# Altium integrated library TI Interface Line Transceiver.IntLib: 631 symbols (part 17 of 17)
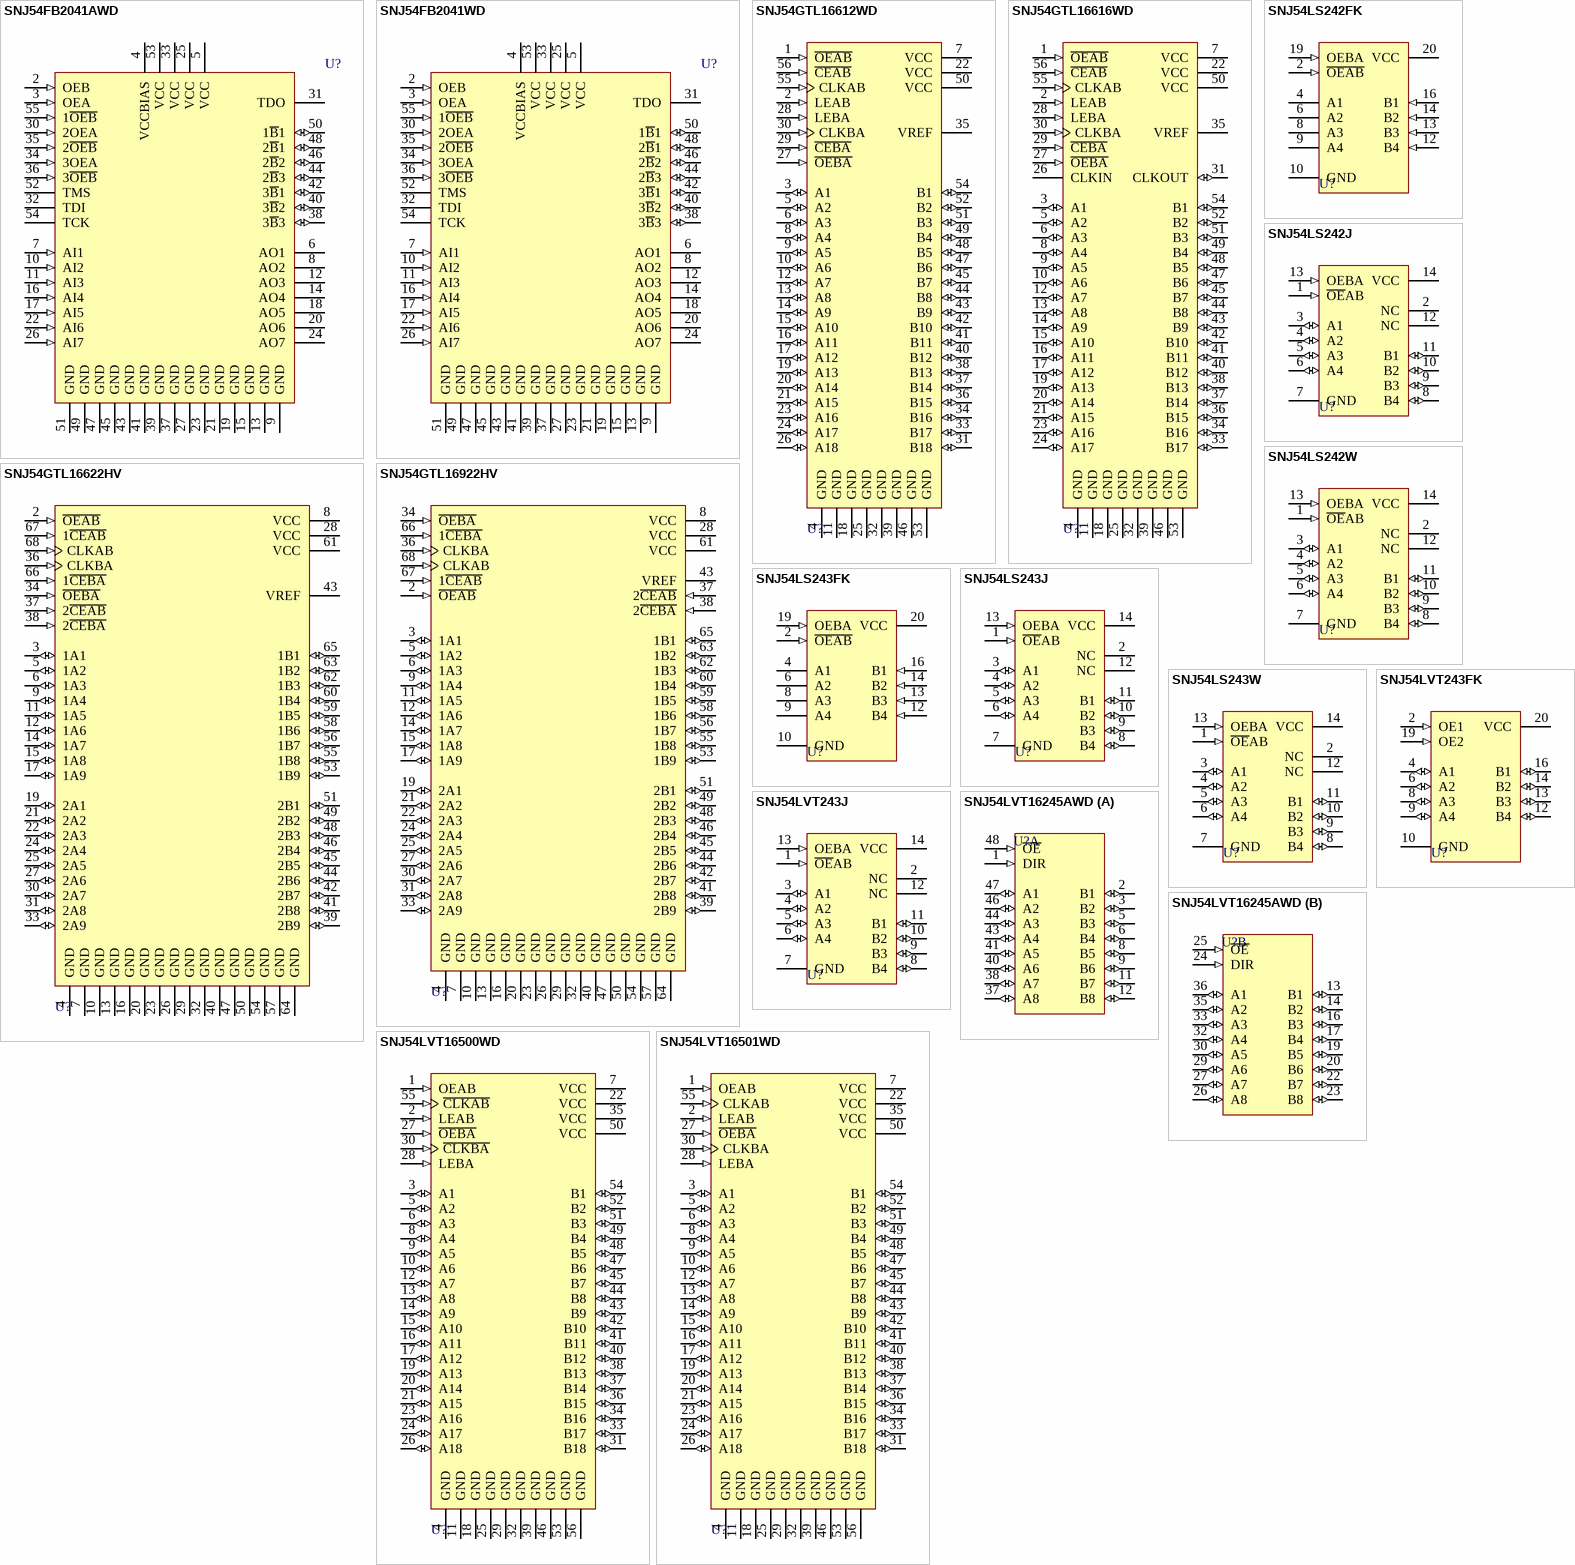
[diagram p55: symbols SNJ54FB2041AWD to SNJ54LVT16501WD]

## SNJ54LVT16500WD
designator U?
3.3-V ABT 18-Bit Universal Bus Transceiver with 3-State Outputs; Published: 8-Jun-2000; LatestRevisionDate: 04-Mar-2005; LatestRevisionNote: Stylized 3D Model Added.; DatasheetVersion: Nov-1996; PackageVersion: Jan-1998; PackageReference: WD056; Publisher: Altium Limited; PackageDescription: DFP; 56 Leads; Body 18.8 x 9.9 mm (LxW max); Pitch 0.635 mm; Code_JEDEC: MO-146-AB; ComponentLink1Description: Manufacturer Link; ComponentLink1URL: http://www.ti.com/
footprint WD056 (DFP; 56 Leads; Body 18.8 x 9.9 mm (LxW max); Pitch 0.635 mm)
3D model WD056 (DFP; 56 Leads; Body 18.8 x 9.9 mm (LxW max); Pitch 0.635 mm)
signal-integrity model SNJ54LVT16500WD
pins: 1 OEAB (in), 2 LEAB (in), 3 A1 (io), 4 GND (power), 5 A2 (io), 6 A3 (io), 7 VCC (power), 8 A4 (io), 9 A5 (io), 10 A6 (io), 11 GND (power), 12 A7 (io), 13 A8 (io), 14 A9 (io), 15 A10 (io), 16 A11 (io), 17 A12 (io), 18 GND (power), 19 A13 (io), 20 A14 (io), 21 A15 (io), 22 VCC (power), 23 A16 (io), 24 A17 (io), 25 GND (power), 26 A18 (io), 27 ~{OEBA} (in), 28 LEBA (in), 29 GND (power), 30 ~{CLKBA} (in), 31 B18 (io), 32 GND (power), 33 B17 (io), 34 B16 (io), 35 VCC (power), 36 B15 (io), 37 B14 (io), 38 B13 (io), 39 GND (power), 40 B12 (io), 41 B11 (io), 42 B10 (io), 43 B9 (io), 44 B8 (io), 45 B7 (io), 46 GND (power), 47 B6 (io), 48 B5 (io), 49 B4 (io), 50 VCC (power), 51 B3 (io), 52 B2 (io), 53 GND (power), 54 B1 (io), 55 ~{CLKAB} (in), 56 GND (power)

## SNJ54LVT16501WD
designator U?
3.3-V ABT 18-Bit Universal Bus Transceiver with 3-State Outputs; Published: 8-Jun-2000; LatestRevisionDate: 04-Mar-2005; LatestRevisionNote: Stylized 3D Model Added.; DatasheetVersion: Nov-1996; PackageVersion: Jan-1998; PackageReference: WD056; Publisher: Altium Limited; PackageDescription: DFP; 56 Leads; Body 18.8 x 9.9 mm (LxW max); Pitch 0.635 mm; Code_JEDEC: MO-146-AB; ComponentLink1Description: Manufacturer Link; ComponentLink1URL: http://www.ti.com/
footprint WD056 (DFP; 56 Leads; Body 18.8 x 9.9 mm (LxW max); Pitch 0.635 mm)
3D model WD056 (DFP; 56 Leads; Body 18.8 x 9.9 mm (LxW max); Pitch 0.635 mm)
signal-integrity model SNJ54LVT16501WD
pins: 1 OEAB (in), 2 LEAB (in), 3 A1 (io), 4 GND (power), 5 A2 (io), 6 A3 (io), 7 VCC (power), 8 A4 (io), 9 A5 (io), 10 A6 (io), 11 GND (power), 12 A7 (io), 13 A8 (io), 14 A9 (io), 15 A10 (io), 16 A11 (io), 17 A12 (io), 18 GND (power), 19 A13 (io), 20 A14 (io), 21 A15 (io), 22 VCC (power), 23 A16 (io), 24 A17 (io), 25 GND (power), 26 A18 (io), 27 ~{OEBA} (in), 28 LEBA (in), 29 GND (power), 30 CLKBA (in), 31 B18 (io), 32 GND (power), 33 B17 (io), 34 B16 (io), 35 VCC (power), 36 B15 (io), 37 B14 (io), 38 B13 (io), 39 GND (power), 40 B12 (io), 41 B11 (io), 42 B10 (io), 43 B9 (io), 44 B8 (io), 45 B7 (io), 46 GND (power), 47 B6 (io), 48 B5 (io), 49 B4 (io), 50 VCC (power), 51 B3 (io), 52 B2 (io), 53 GND (power), 54 B1 (io), 55 CLKAB (in), 56 GND (power)

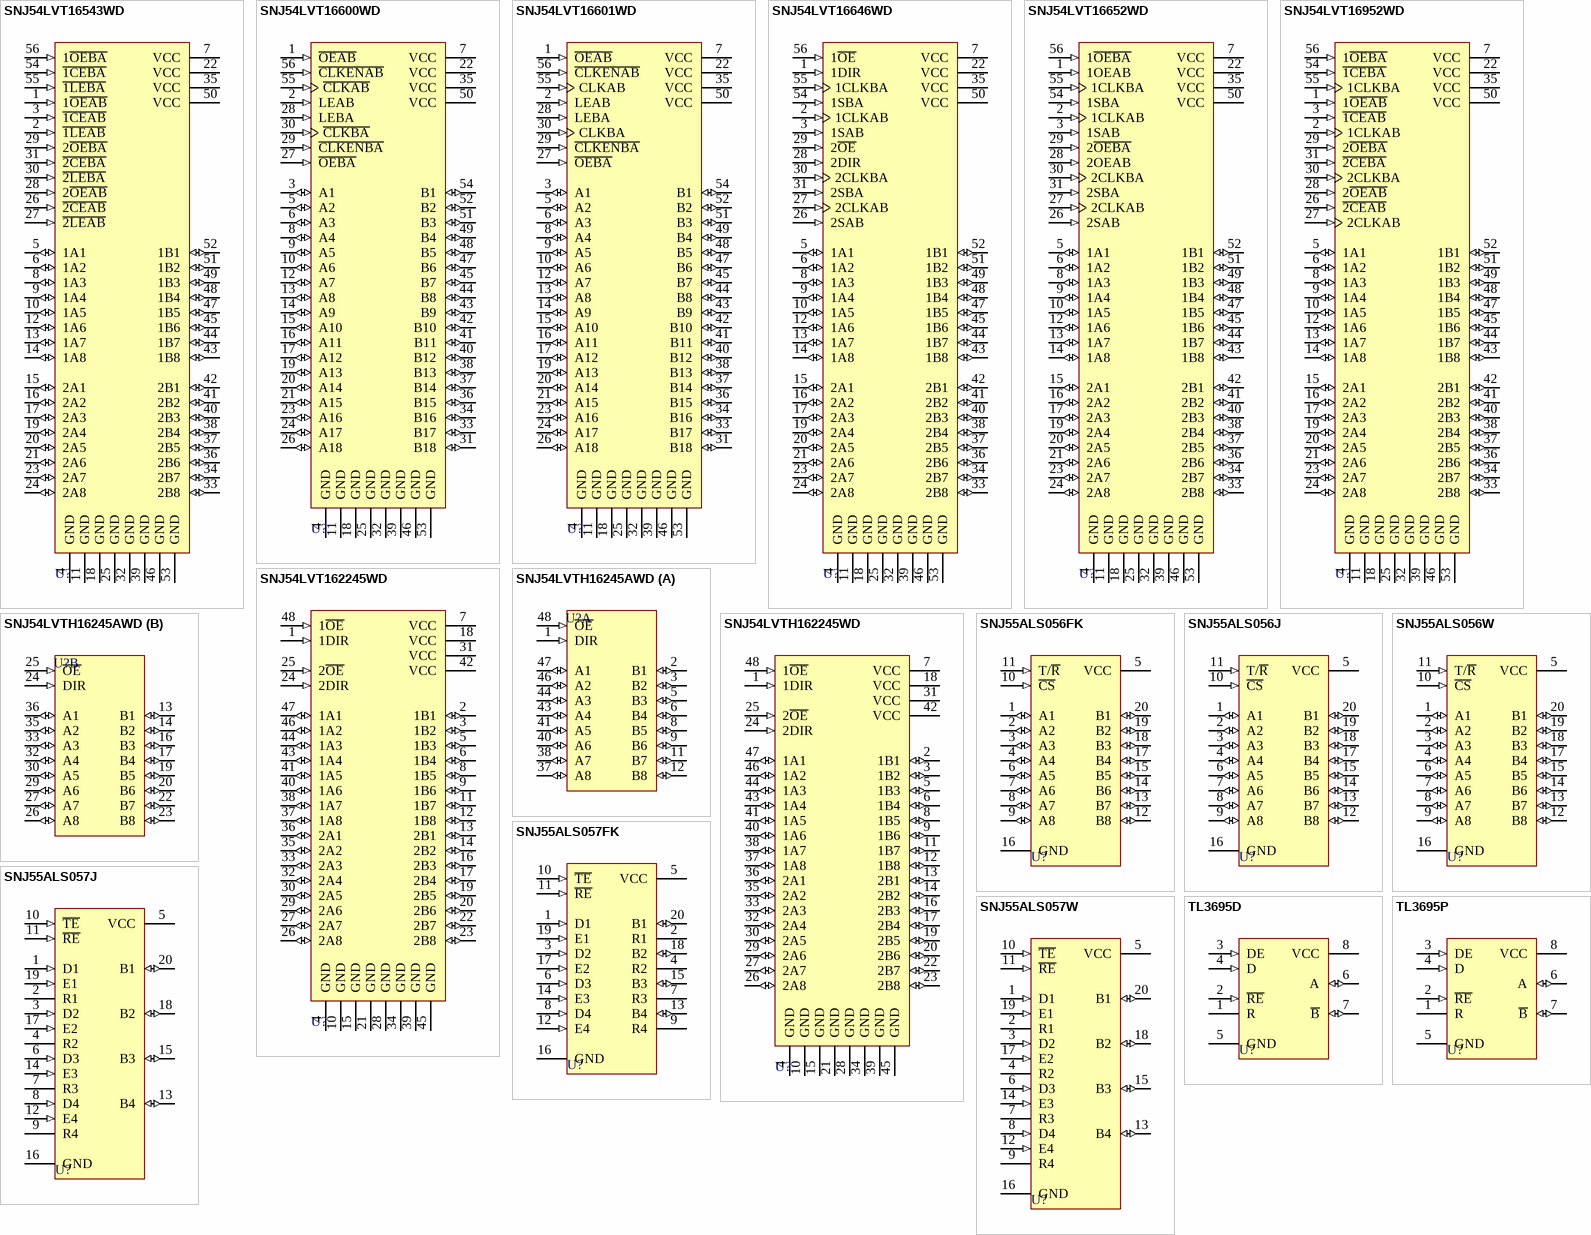
[diagram p37: symbols SNJ54LVT16543WD to TL3695P]

## SNJ54LVT16543WD
designator U?
3.3-V ABT 16-Bit Registered Transceiver with 3-State Outputs; Published: 8-Jun-2000; LatestRevisionDate: 04-Mar-2005; LatestRevisionNote: Stylized 3D Model Added.; DatasheetVersion: Jul-1995; PackageVersion: Jan-1998; PackageReference: WD056; Publisher: Altium Limited; PackageDescription: DFP; 56 Leads; Body 18.8 x 9.9 mm (LxW max); Pitch 0.635 mm; Code_JEDEC: MO-146-AB; ComponentLink1Description: Manufacturer Link; ComponentLink1URL: http://www.ti.com/
footprint WD056 (DFP; 56 Leads; Body 18.8 x 9.9 mm (LxW max); Pitch 0.635 mm)
3D model WD056 (DFP; 56 Leads; Body 18.8 x 9.9 mm (LxW max); Pitch 0.635 mm)
signal-integrity model SNJ54LVT16543WD
pins: 1 1~{OEAB} (in), 2 ~{1LEAB} (in), 3 ~{1CEAB} (in), 4 GND (power), 5 1A1 (io), 6 1A2 (io), 7 VCC (power), 8 1A3 (io), 9 1A4 (io), 10 1A5 (io), 11 GND (power), 12 1A6 (io), 13 1A7 (io), 14 1A8 (io), 15 2A1 (io), 16 2A2 (io), 17 2A3 (io), 18 GND (power), 19 2A4 (io), 20 2A5 (io), 21 2A6 (io), 22 VCC (power), 23 2A7 (io), 24 2A8 (io), 25 GND (power), 26 ~{2CEAB} (in), 27 ~{2LEAB} (in), 28 2~{OEAB} (in), 29 2~{OEBA} (in), 30 ~{2LEBA} (in), 31 ~{2CEBA} (in), 32 GND (power), 33 2B8 (io), 34 2B7 (io), 35 VCC (power), 36 2B6 (io), 37 2B5 (io), 38 2B4 (io), 39 GND (power), 40 2B3 (io), 41 2B2 (io), 42 2B1 (io), 43 1B8 (io), 44 1B7 (io), 45 1B6 (io), 46 GND (power), 47 1B5 (io), 48 1B4 (io), 49 1B3 (io), 50 VCC (power), 51 1B2 (io), 52 1B1 (io), 53 GND (power), 54 ~{1CEBA} (in), 55 ~{1LEBA} (in), 56 1~{OEBA} (in)

## SNJ54LVT16600WD
designator U?
3.3-V ABT 18-Bit Universal Bus Transceiver with 3-State Outputs; Published: 8-Jun-2000; LatestRevisionDate: 04-Mar-2005; LatestRevisionNote: Stylized 3D Model Added.; DatasheetVersion: Jul-1995; PackageVersion: Jan-1998; PackageReference: WD056; Publisher: Altium Limited; PackageDescription: DFP; 56 Leads; Body 18.8 x 9.9 mm (LxW max); Pitch 0.635 mm; Code_JEDEC: MO-146-AB; ComponentLink1Description: Manufacturer Link; ComponentLink1URL: http://www.ti.com/
footprint WD056 (DFP; 56 Leads; Body 18.8 x 9.9 mm (LxW max); Pitch 0.635 mm)
3D model WD056 (DFP; 56 Leads; Body 18.8 x 9.9 mm (LxW max); Pitch 0.635 mm)
signal-integrity model SNJ54LVT16600WD
pins: 1 ~{OEAB} (in), 2 LEAB (in), 3 A1 (io), 4 GND (power), 5 A2 (io), 6 A3 (io), 7 VCC (power), 8 A4 (io), 9 A5 (io), 10 A6 (io), 11 GND (power), 12 A7 (io), 13 A8 (io), 14 A9 (io), 15 A10 (io), 16 A11 (io), 17 A12 (io), 18 GND (power), 19 A13 (io), 20 A14 (io), 21 A15 (io), 22 VCC (power), 23 A16 (io), 24 A17 (io), 25 GND (power), 26 A18 (io), 27 ~{OEBA} (in), 28 LEBA (in), 29 ~{CLKENBA} (in), 30 ~{CLKBA} (in), 31 B18 (io), 32 GND (power), 33 B17 (io), 34 B16 (io), 35 VCC (power), 36 B15 (io), 37 B14 (io), 38 B13 (io), 39 GND (power), 40 B12 (io), 41 B11 (io), 42 B10 (io), 43 B9 (io), 44 B8 (io), 45 B7 (io), 46 GND (power), 47 B6 (io), 48 B5 (io), 49 B4 (io), 50 VCC (power), 51 B3 (io), 52 B2 (io), 53 GND (power), 54 B1 (io), 55 ~{CLKAB} (in), 56 ~{CLKENAB} (in)

## SNJ54LVT16601WD
designator U?
3.3-V ABT 18-Bit Universal Bus Transceiver with 3-State Outputs; Published: 8-Jun-2000; LatestRevisionDate: 04-Mar-2005; LatestRevisionNote: Stylized 3D Model Added.; DatasheetVersion: Jul-1995; PackageVersion: Jan-1998; PackageReference: WD056; Publisher: Altium Limited; PackageDescription: DFP; 56 Leads; Body 18.8 x 9.9 mm (LxW max); Pitch 0.635 mm; Code_JEDEC: MO-146-AB; ComponentLink1Description: Manufacturer Link; ComponentLink1URL: http://www.ti.com/
footprint WD056 (DFP; 56 Leads; Body 18.8 x 9.9 mm (LxW max); Pitch 0.635 mm)
3D model WD056 (DFP; 56 Leads; Body 18.8 x 9.9 mm (LxW max); Pitch 0.635 mm)
signal-integrity model SNJ54LVT16601WD
pins: 1 ~{OEAB} (in), 2 LEAB (in), 3 A1 (io), 4 GND (power), 5 A2 (io), 6 A3 (io), 7 VCC (power), 8 A4 (io), 9 A5 (io), 10 A6 (io), 11 GND (power), 12 A7 (io), 13 A8 (io), 14 A9 (io), 15 A10 (io), 16 A11 (io), 17 A12 (io), 18 GND (power), 19 A13 (io), 20 A14 (io), 21 A15 (io), 22 VCC (power), 23 A16 (io), 24 A17 (io), 25 GND (power), 26 A18 (io), 27 ~{OEBA} (in), 28 LEBA (in), 29 ~{CLKENBA} (in), 30 CLKBA (in), 31 B18 (io), 32 GND (power), 33 B17 (io), 34 B16 (io), 35 VCC (power), 36 B15 (io), 37 B14 (io), 38 B13 (io), 39 GND (power), 40 B12 (io), 41 B11 (io), 42 B10 (io), 43 B9 (io), 44 B8 (io), 45 B7 (io), 46 GND (power), 47 B6 (io), 48 B5 (io), 49 B4 (io), 50 VCC (power), 51 B3 (io), 52 B2 (io), 53 GND (power), 54 B1 (io), 55 CLKAB (in), 56 ~{CLKENAB} (in)

## SNJ54LVT16646WD
designator U?
3.3-V ABT 16-Bit Bus Transceiver with 3-State Outputs; Published: 8-Jun-2000; LatestRevisionDate: 04-Mar-2005; LatestRevisionNote: Stylized 3D Model Added.; DatasheetVersion: Jul-1995; PackageVersion: Jan-1998; PackageReference: WD056; Publisher: Altium Limited; PackageDescription: DFP; 56 Leads; Body 18.8 x 9.9 mm (LxW max); Pitch 0.635 mm; Code_JEDEC: MO-146-AB; ComponentLink1Description: Manufacturer Link; ComponentLink1URL: http://www.ti.com/; ComponentLink2Description: Datasheet; ComponentLink2URL: http://www-s.ti.com/sc/ds/sn74lvt16646.pdf
footprint WD056 (DFP; 56 Leads; Body 18.8 x 9.9 mm (LxW max); Pitch 0.635 mm)
3D model WD056 (DFP; 56 Leads; Body 18.8 x 9.9 mm (LxW max); Pitch 0.635 mm)
signal-integrity model SNJ54LVT16646WD
pins: 1 1DIR (in), 2 1CLKAB (in), 3 1SAB (in), 4 GND (power), 5 1A1 (io), 6 1A2 (io), 7 VCC (power), 8 1A3 (io), 9 1A4 (io), 10 1A5 (io), 11 GND (power), 12 1A6 (io), 13 1A7 (io), 14 1A8 (io), 15 2A1 (io), 16 2A2 (io), 17 2A3 (io), 18 GND (power), 19 2A4 (io), 20 2A5 (io), 21 2A6 (io), 22 VCC (power), 23 2A7 (io), 24 2A8 (io), 25 GND (power), 26 2SAB (in), 27 2CLKAB (in), 28 2DIR (in), 29 2~{OE} (in), 30 2CLKBA (in), 31 2SBA (in), 32 GND (power), 33 2B8 (io), 34 2B7 (io), 35 VCC (power), 36 2B6 (io), 37 2B5 (io), 38 2B4 (io), 39 GND (power), 40 2B3 (io), 41 2B2 (io), 42 2B1 (io), 43 1B8 (io), 44 1B7 (io), 45 1B6 (io), 46 GND (power), 47 1B5 (io), 48 1B4 (io), 49 1B3 (io), 50 VCC (power), 51 1B2 (io), 52 1B1 (io), 53 GND (power), 54 1SBA (in), 55 1CLKBA (in), 56 1~{OE} (in)

## SNJ54LVT16652WD
designator U?
3.3-V ABT 16-Bit Transceiver and Register with 3-State Outputs; Published: 8-Jun-2000; LatestRevisionDate: 04-Mar-2005; LatestRevisionNote: Stylized 3D Model Added.; DatasheetVersion: Feb-1996; PackageVersion: Jan-1998; PackageReference: WD056; Publisher: Altium Limited; PackageDescription: DFP; 56 Leads; Body 18.8 x 9.9 mm (LxW max); Pitch 0.635 mm; Code_JEDEC: MO-146-AB; ComponentLink1Description: Manufacturer Link; ComponentLink1URL: http://www.ti.com/
footprint WD056 (DFP; 56 Leads; Body 18.8 x 9.9 mm (LxW max); Pitch 0.635 mm)
3D model WD056 (DFP; 56 Leads; Body 18.8 x 9.9 mm (LxW max); Pitch 0.635 mm)
signal-integrity model SNJ54LVT16652WD
pins: 1 1OEAB (in), 2 1CLKAB (in), 3 1SAB (in), 4 GND (power), 5 1A1 (io), 6 1A2 (io), 7 VCC (power), 8 1A3 (io), 9 1A4 (io), 10 1A5 (io), 11 GND (power), 12 1A6 (io), 13 1A7 (io), 14 1A8 (io), 15 2A1 (io), 16 2A2 (io), 17 2A3 (io), 18 GND (power), 19 2A4 (io), 20 2A5 (io), 21 2A6 (io), 22 VCC (power), 23 2A7 (io), 24 2A8 (io), 25 GND (power), 26 2SAB (in), 27 2CLKAB (in), 28 2OEAB (in), 29 2~{OEBA} (in), 30 2CLKBA (in), 31 2SBA (in), 32 GND (power), 33 2B8 (io), 34 2B7 (io), 35 VCC (power), 36 2B6 (io), 37 2B5 (io), 38 2B4 (io), 39 GND (power), 40 2B3 (io), 41 2B2 (io), 42 2B1 (io), 43 1B8 (io), 44 1B7 (io), 45 1B6 (io), 46 GND (power), 47 1B5 (io), 48 1B4 (io), 49 1B3 (io), 50 VCC (power), 51 1B2 (io), 52 1B1 (io), 53 GND (power), 54 1SBA (in), 55 1CLKBA (in), 56 1~{OEBA} (in)

## SNJ54LVT16952WD
designator U?
3.3-V ABT 16-Bit Registered Transceiver with 3-State Outputs; Published: 8-Jun-2000; LatestRevisionDate: 04-Mar-2005; LatestRevisionNote: Stylized 3D Model Added.; DatasheetVersion: Aug-1996; PackageVersion: Jan-1998; PackageReference: WD056; Publisher: Altium Limited; PackageDescription: DFP; 56 Leads; Body 18.8 x 9.9 mm (LxW max); Pitch 0.635 mm; Code_JEDEC: MO-146-AB; ComponentLink1Description: Manufacturer Link; ComponentLink1URL: http://www.ti.com/
footprint WD056 (DFP; 56 Leads; Body 18.8 x 9.9 mm (LxW max); Pitch 0.635 mm)
3D model WD056 (DFP; 56 Leads; Body 18.8 x 9.9 mm (LxW max); Pitch 0.635 mm)
signal-integrity model SNJ54LVT16952WD
pins: 1 1~{OEAB} (in), 2 1CLKAB (in), 3 ~{1CEAB} (in), 4 GND (power), 5 1A1 (io), 6 1A2 (io), 7 VCC (power), 8 1A3 (io), 9 1A4 (io), 10 1A5 (io), 11 GND (power), 12 1A6 (io), 13 1A7 (io), 14 1A8 (io), 15 2A1 (io), 16 2A2 (io), 17 2A3 (io), 18 GND (power), 19 2A4 (io), 20 2A5 (io), 21 2A6 (io), 22 VCC (power), 23 2A7 (io), 24 2A8 (io), 25 GND (power), 26 ~{2CEAB} (in), 27 2CLKAB (in), 28 2~{OEAB} (in), 29 2~{OEBA} (in), 30 2CLKBA (in), 31 ~{2CEBA} (in), 32 GND (power), 33 2B8 (io), 34 2B7 (io), 35 VCC (power), 36 2B6 (io), 37 2B5 (io), 38 2B4 (io), 39 GND (power), 40 2B3 (io), 41 2B2 (io), 42 2B1 (io), 43 1B8 (io), 44 1B7 (io), 45 1B6 (io), 46 GND (power), 47 1B5 (io), 48 1B4 (io), 49 1B3 (io), 50 VCC (power), 51 1B2 (io), 52 1B1 (io), 53 GND (power), 54 ~{1CEBA} (in), 55 1CLKBA (in), 56 1~{OEBA} (in)

## SNJ54LVT162245WD
designator U?
3.3-V ABT 16-Bit Bus Transceiver with 3-State Outputs; Published: 8-Jun-2000; LatestRevisionDate: 04-Mar-2005; LatestRevisionNote: Stylized 3D Model Added.; DatasheetVersion: Nov-1995; PackageVersion: Jan-1998; PackageReference: WD048; Publisher: Altium Limited; PackageDescription: DFP; 48 Leads; Body 16.3 x 9.9 mm (LxW max); Pitch 0.635 mm; Code_JEDEC: MO-146-AA; ComponentLink1Description: Manufacturer Link; ComponentLink1URL: http://www.ti.com/
footprint WD048 (DFP; 48 Leads; Body 16.3 x 9.9 mm (LxW max); Pitch 0.635 mm)
3D model WD048 (DFP; 48 Leads; Body 16.3 x 9.9 mm (LxW max); Pitch 0.635 mm)
signal-integrity model SNJ54LVT162245WD
pins: 1 1DIR (in), 2 1B1 (io), 3 1B2 (io), 4 GND (power), 5 1B3 (io), 6 1B4 (io), 7 VCC (power), 8 1B5 (io), 9 1B6 (io), 10 GND (power), 11 1B7 (io), 12 1B8 (io), 13 2B1 (io), 14 2B2 (io), 15 GND (power), 16 2B3 (io), 17 2B4 (io), 18 VCC (power), 19 2B5 (io), 20 2B6 (io), 21 GND (power), 22 2B7 (io), 23 2B8 (io), 24 2DIR (in), 25 2~{OE} (in), 26 2A8 (io), 27 2A7 (io), 28 GND (power), 29 2A6 (io), 30 2A5 (io), 31 VCC (power), 32 2A4 (io), 33 2A3 (io), 34 GND (power), 35 2A2 (io), 36 2A1 (io), 37 1A8 (io), 38 1A7 (io), 39 GND (power), 40 1A6 (io), 41 1A5 (io), 42 VCC (power), 43 1A4 (io), 44 1A3 (io), 45 GND (power), 46 1A2 (io), 47 1A1 (io), 48 1~{OE} (in)

## SNJ54LVTH16245AWD
designator U?
3.3-V ABT 16-Bit Bus Transceiver with 3-State Outputs; Published: 8-Jun-2000; LatestRevisionDate: 04-Mar-2005; LatestRevisionNote: Stylized 3D Model Added.; DatasheetVersion: Apr-1999; PackageVersion: Jan-1998; PackageReference: WD048; Publisher: Altium Limited; PackageDescription: DFP; 48 Leads; Body 16.3 x 9.9 mm (LxW max); Pitch 0.635 mm; Code_JEDEC: MO-146-AA; ComponentLink1Description: Manufacturer Link; ComponentLink1URL: http://www.ti.com/; ComponentLink2Description: Datasheet; ComponentLink2URL: http://www-s.ti.com/sc/ds/sn74lvth16245a.pdf
footprint WD048 (DFP; 48 Leads; Body 16.3 x 9.9 mm (LxW max); Pitch 0.635 mm)
3D model WD048 (DFP; 48 Leads; Body 16.3 x 9.9 mm (LxW max); Pitch 0.635 mm)
pins on every part: 4 GND (power) hidden to GND, 7 VCC (power) hidden to VCC, 10 GND (power) hidden to GND, 15 GND (power) hidden to GND, 18 VCC (power) hidden to VCC, 21 GND (power) hidden to GND, 28 GND (power) hidden to GND, 31 VCC (power) hidden to VCC, 34 GND (power) hidden to GND, 39 GND (power) hidden to GND, 42 VCC (power) hidden to VCC, 45 GND (power) hidden to GND
part A pins: 1 DIR (in), 2 B1 (io), 3 B2 (io), 5 B3 (io), 6 B4 (io), 8 B5 (io), 9 B6 (io), 11 B7 (io), 12 B8 (io), 37 A8 (io), 38 A7 (io), 40 A6 (io), 41 A5 (io), 43 A4 (io), 44 A3 (io), 46 A2 (io), 47 A1 (io), 48 ~{OE} (in)
part B pins: 13 B1 (io), 14 B2 (io), 16 B3 (io), 17 B4 (io), 19 B5 (io), 20 B6 (io), 22 B7 (io), 23 B8 (io), 24 DIR (in), 25 ~{OE} (in), 26 A8 (io), 27 A7 (io), 29 A6 (io), 30 A5 (io), 32 A4 (io), 33 A3 (io), 35 A2 (io), 36 A1 (io)

## SNJ54LVTH162245WD
designator U?
3.3-V ABT 16-Bit Bus Transceiver with 3-State Outputs; Published: 8-Jun-2000; LatestRevisionDate: 04-Mar-2005; LatestRevisionNote: Stylized 3D Model Added.; DatasheetVersion: Apr-1999; PackageVersion: Jan-1998; PackageReference: WD048; Publisher: Altium Limited; PackageDescription: DFP; 48 Leads; Body 16.3 x 9.9 mm (LxW max); Pitch 0.635 mm; Code_JEDEC: MO-146-AA; ComponentLink1Description: Manufacturer Link; ComponentLink1URL: http://www.ti.com/; ComponentLink2Description: Datasheet; ComponentLink2URL: http://www-s.ti.com/sc/ds/sn74lvth162245.pdf
footprint WD048 (DFP; 48 Leads; Body 16.3 x 9.9 mm (LxW max); Pitch 0.635 mm)
3D model WD048 (DFP; 48 Leads; Body 16.3 x 9.9 mm (LxW max); Pitch 0.635 mm)
pins: 1 1DIR (in), 2 1B1 (io), 3 1B2 (io), 4 GND (power), 5 1B3 (io), 6 1B4 (io), 7 VCC (power), 8 1B5 (io), 9 1B6 (io), 10 GND (power), 11 1B7 (io), 12 1B8 (io), 13 2B1 (io), 14 2B2 (io), 15 GND (power), 16 2B3 (io), 17 2B4 (io), 18 VCC (power), 19 2B5 (io), 20 2B6 (io), 21 GND (power), 22 2B7 (io), 23 2B8 (io), 24 2DIR (in), 25 2~{OE} (in), 26 2A8 (io), 27 2A7 (io), 28 GND (power), 29 2A6 (io), 30 2A5 (io), 31 VCC (power), 32 2A4 (io), 33 2A3 (io), 34 GND (power), 35 2A2 (io), 36 2A1 (io), 37 1A8 (io), 38 1A7 (io), 39 GND (power), 40 1A6 (io), 41 1A5 (io), 42 VCC (power), 43 1A4 (io), 44 1A3 (io), 45 GND (power), 46 1A2 (io), 47 1A1 (io), 48 1~{OE} (in)

## SNJ55ALS056FK
designator U?
Trapezoidal-Waveform Interface Bus Transceiver; Published: 8-Jun-2000; LatestRevisionDate: 17-Jul-2002; LatestRevisionNote: Re-released for DXP Platform.; DatasheetVersion: Apr-1989; PackageVersion: 1998; PackageReference: FK020D; Publisher: Altium Limited; PackageDescription: Leadless Chip Carrier; 20 Terminals; Body 8.9 x 8.9 mm; ComponentLink1Description: Manufacturer Link; ComponentLink1URL: http://www.ti.com/
footprint FK020D (Leadless Chip Carrier; 20 Terminals; Body 8.9 x 8.9 mm)
pins: 1 A1 (io), 2 A2 (io), 3 A3 (io), 4 A4 (io), 5 VCC (power), 6 A5 (io), 7 A6 (io), 8 A7 (io), 9 A8 (io), 10 ~{CS} (in), 11 T/~{R} (in), 12 B8 (io), 13 B7 (io), 14 B6 (io), 15 B5 (io), 16 GND (power), 17 B4 (io), 18 B3 (io), 19 B2 (io), 20 B1 (io)

## SNJ55ALS056J
designator U?
Trapezoidal-Waveform Interface Bus Transceiver; Published: 8-Jun-2000; LatestRevisionDate: 04-Mar-2005; LatestRevisionNote: Stylized 3D Model Added.; DatasheetVersion: Apr-1989; PackageVersion: Jun-1999; PackageReference: J020D; Publisher: Altium Limited; PackageDescription: DIP; 20 Leads; Row Spacing 7.62 mm; Pitch 2.54 mm; ComponentLink1Description: Manufacturer Link; ComponentLink1URL: http://www.ti.com/
footprint J020D (DIP; 20 Leads; Row Spacing 7.62 mm; Pitch 2.54 mm)
3D model J020 (DIP; 20 Leads; Row Spacing 7.62 mm; Pitch 2.54 mm)
pins: 1 A1 (io), 2 A2 (io), 3 A3 (io), 4 A4 (io), 5 VCC (power), 6 A5 (io), 7 A6 (io), 8 A7 (io), 9 A8 (io), 10 ~{CS} (in), 11 T/~{R} (in), 12 B8 (io), 13 B7 (io), 14 B6 (io), 15 B5 (io), 16 GND (power), 17 B4 (io), 18 B3 (io), 19 B2 (io), 20 B1 (io)

## SNJ55ALS056W
designator U?
Trapezoidal-Waveform Interface Bus Transceiver; Published: 8-Jun-2000; LatestRevisionDate: 04-Mar-2005; LatestRevisionNote: Stylized 3D Model Added.; DatasheetVersion: Apr-1989; PackageVersion: Jan-1995; PackageReference: W020; Publisher: Altium Limited; PackageDescription: DFP; 20 Leads; Body 13.7 x 7.6 mm (LxW max); Pitch 1.27 mm; ComponentLink1Description: Manufacturer Link; ComponentLink1URL: http://www.ti.com/
footprint W020 (DFP; 20 Leads; Body 13.7 x 7.6 mm (LxW max); Pitch 1.27 mm)
3D model W020 (DFP; 20 Leads; Body 13.7 x 7.6 mm (LxW max); Pitch 1.27 mm)
pins: 1 A1 (io), 2 A2 (io), 3 A3 (io), 4 A4 (io), 5 VCC (power), 6 A5 (io), 7 A6 (io), 8 A7 (io), 9 A8 (io), 10 ~{CS} (in), 11 T/~{R} (in), 12 B8 (io), 13 B7 (io), 14 B6 (io), 15 B5 (io), 16 GND (power), 17 B4 (io), 18 B3 (io), 19 B2 (io), 20 B1 (io)

## SNJ55ALS057FK
designator U?
Trapezoidal-Waveform Interface Bus Transceiver; Published: 8-Jun-2000; LatestRevisionDate: 17-Jul-2002; LatestRevisionNote: Re-released for DXP Platform.; DatasheetVersion: Apr-1989; PackageVersion: 1998; PackageReference: FK020D; Publisher: Altium Limited; PackageDescription: Leadless Chip Carrier; 20 Terminals; Body 8.9 x 8.9 mm; ComponentLink1Description: Manufacturer Link; ComponentLink1URL: http://www.ti.com/
footprint FK020D (Leadless Chip Carrier; 20 Terminals; Body 8.9 x 8.9 mm)
pins: 1 D1 (in), 2 R1 (hiz), 3 D2 (in), 4 R2 (hiz), 5 VCC (power), 6 D3 (in), 7 R3 (hiz), 8 D4 (in), 9 R4 (hiz), 10 ~{TE} (in), 11 ~{RE} (in), 12 E4 (in), 13 B4 (io), 14 E3 (in), 15 B3 (io), 16 GND (power), 17 E2 (in), 18 B2 (io), 19 E1 (in), 20 B1 (io)

## SNJ55ALS057J
designator U?
Trapezoidal-Waveform Interface Bus Transceiver; Published: 8-Jun-2000; LatestRevisionDate: 04-Mar-2005; LatestRevisionNote: Stylized 3D Model Added.; DatasheetVersion: Apr-1989; PackageVersion: Jun-1999; PackageReference: J020D; Publisher: Altium Limited; PackageDescription: DIP; 20 Leads; Row Spacing 7.62 mm; Pitch 2.54 mm; ComponentLink1Description: Manufacturer Link; ComponentLink1URL: http://www.ti.com/
footprint J020D (DIP; 20 Leads; Row Spacing 7.62 mm; Pitch 2.54 mm)
3D model J020 (DIP; 20 Leads; Row Spacing 7.62 mm; Pitch 2.54 mm)
pins: 1 D1 (in), 2 R1 (hiz), 3 D2 (in), 4 R2 (hiz), 5 VCC (power), 6 D3 (in), 7 R3 (hiz), 8 D4 (in), 9 R4 (hiz), 10 ~{TE} (in), 11 ~{RE} (in), 12 E4 (in), 13 B4 (io), 14 E3 (in), 15 B3 (io), 16 GND (power), 17 E2 (in), 18 B2 (io), 19 E1 (in), 20 B1 (io)

## SNJ55ALS057W
designator U?
Trapezoidal-Waveform Interface Bus Transceiver; Published: 8-Jun-2000; LatestRevisionDate: 04-Mar-2005; LatestRevisionNote: Stylized 3D Model Added.; DatasheetVersion: Apr-1989; PackageVersion: Jan-1995; PackageReference: W020; Publisher: Altium Limited; PackageDescription: DFP; 20 Leads; Body 13.7 x 7.6 mm (LxW max); Pitch 1.27 mm; ComponentLink1Description: Manufacturer Link; ComponentLink1URL: http://www.ti.com/
footprint W020 (DFP; 20 Leads; Body 13.7 x 7.6 mm (LxW max); Pitch 1.27 mm)
3D model W020 (DFP; 20 Leads; Body 13.7 x 7.6 mm (LxW max); Pitch 1.27 mm)
pins: 1 D1 (in), 2 R1 (hiz), 3 D2 (in), 4 R2 (hiz), 5 VCC (power), 6 D3 (in), 7 R3 (hiz), 8 D4 (in), 9 R4 (hiz), 10 ~{TE} (in), 11 ~{RE} (in), 12 E4 (in), 13 B4 (io), 14 E3 (in), 15 B3 (io), 16 GND (power), 17 E2 (in), 18 B2 (io), 19 E1 (in), 20 B1 (io)

## TL3695D
designator U?
Differential Bus Transceiver; Note: Receiver Hysteresis typically 70mV.; Published: 15-May-2002; LatestRevisionDate: 13-Apr-2006; LatestRevisionNote: IPC-7351 Footprint Added.; DatasheetVersion: Jan-1990; PackageVersion: Jan-1998; PackageReference: D008; Publisher: Altium Limited; PackageDescription: 8-Pin Small Outline Integrated Circuit 1.27 mm Pitch; Code_IPC: SOIC127P600-8; ComponentLink1Description: Manufacturer Link; ComponentLink1URL: http://www.ti.com/; ComponentLink2Description: Datasheet; ComponentLink2URL: http://www-s.ti.com/sc/ds/tl3695.pdf
footprint D008_N (SOIC, 8-Leads, Body 4.9x3.9mm, Pitch 1.27mm, IPC Medium Density)
footprint D008_L (SOIC, 8-Leads, Body 4.9x3.9mm, Pitch 1.27mm, IPC High Density)
footprint D008_M (SOIC, 8-Leads, Body 4.9x3.9mm, Pitch 1.27mm, IPC Low Density)
3D model D008 (8-Pin Small Outline Integrated Circuit 1.27 mm Pitch)
pins: 1 R (hiz), 2 ~{RE} (in), 3 DE (in), 4 D (in), 5 GND (power), 6 A (io), 7 ~{B} (io), 8 VCC (power)

## TL3695P
designator U?
Differential Bus Transceiver; Note: Receiver Hysteresis typically 70mV.; Published: 15-May-2002; LatestRevisionDate: 04-Mar-2005; LatestRevisionNote: Stylized 3D Model Added.; DatasheetVersion: Jan-1990; PackageVersion: Jun-1999; PackageReference: P008; Publisher: Altium Limited; PackageDescription: DIP; 8 Leads; Row Spacing 7.62 mm; Pitch 2.54 mm; Code_JEDEC: MO-001-AN; ComponentLink1Description: Manufacturer Link; ComponentLink1URL: http://www.ti.com/; ComponentLink2Description: Datasheet; ComponentLink2URL: http://www-s.ti.com/sc/ds/tl3695.pdf
footprint P008 (DIP; 8 Leads; Row Spacing 7.62 mm; Pitch 2.54 mm)
3D model P008 (DIP; 8 Leads; Row Spacing 7.62 mm; Pitch 2.54 mm)
pins: 1 R (hiz), 2 ~{RE} (in), 3 DE (in), 4 D (in), 5 GND (power), 6 A (io), 7 ~{B} (io), 8 VCC (power)

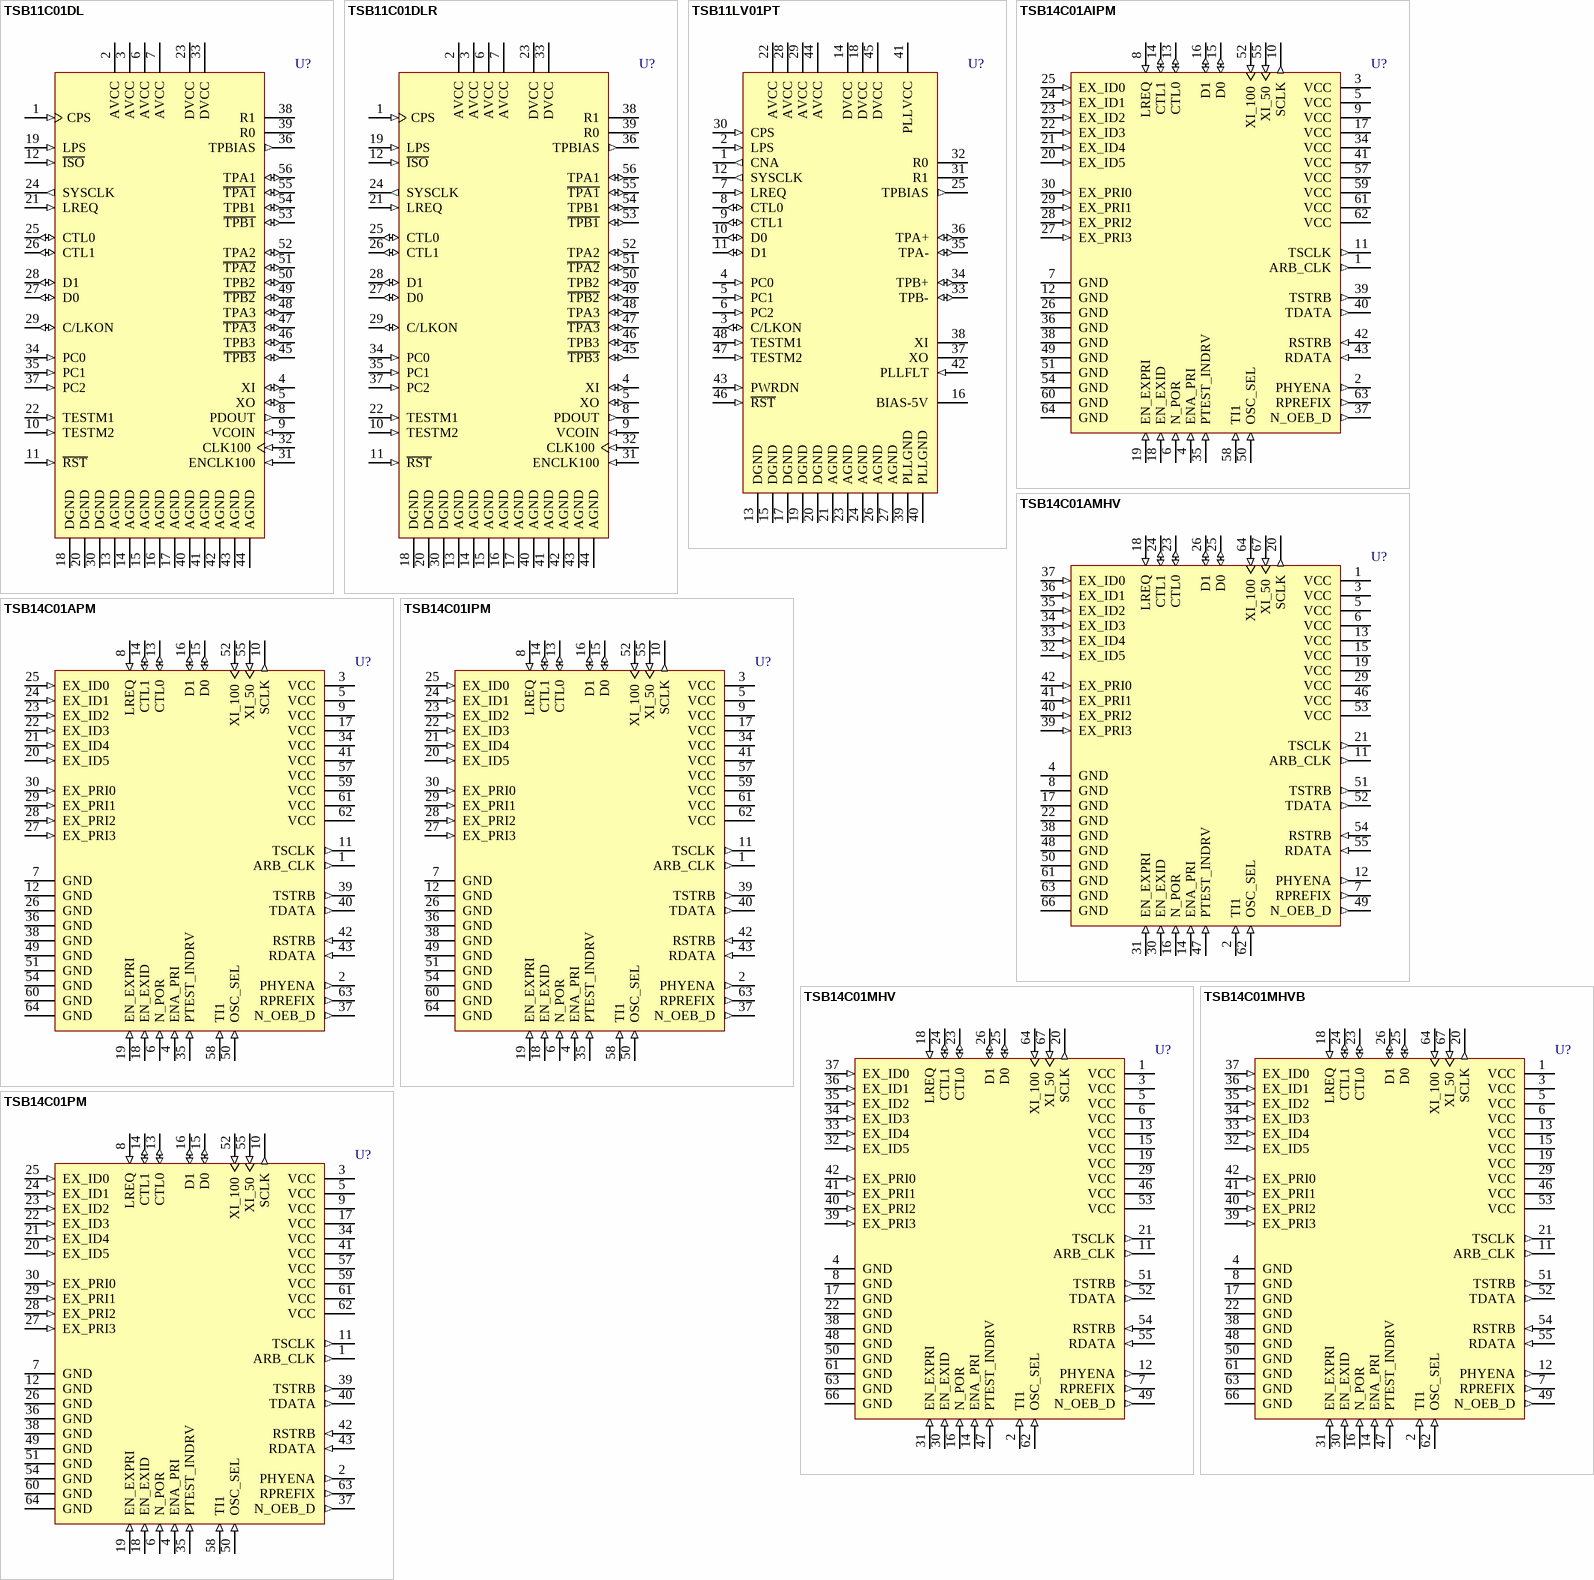
[diagram p38: symbols TSB11C01DL to TSB14C01PM]

## TSB11C01DL
designator U?
IEEE 1394-1995 Triple-Cable Transceiver/Arbiter; Note: Pins 10 and 22 should be tied high.  Pin 36 (TPBIAS) Refer to note in Texas Instruments Data Sheet; ComponentAvailability: Obsolete; Published: 15-Apr-2002; LatestRevisionDate: 04-Mar-2005; LatestRevisionNote: Stylized 3D Model Added.; DatasheetVersion: Mar-1996; PackageVersion: Dec-2001; PackageReference: DL056; Publisher: Altium Limited; PackageDescription: SSOP; 56 Leads; Body Width 7.5 mm; Pitch 0.635 mm; Code_JEDEC: MO-118-AB; Code_IPC: SSO56; ComponentLink1Description: Manufacturer Link; ComponentLink1URL: http://www.ti.com/; ComponentLink2Description: Datasheet; ComponentLink2URL: http://www-s.ti.com/sc/ds/tsb11c01.pdf
footprint DL056 (SSOP; 56 Leads; Body Width 7.5 mm; Pitch 0.635 mm)
3D model DL056 (SSOP; 56 Leads; Body Width 7.5 mm; Pitch 0.635 mm)
pins: 1 CPS (in), 2 AVCC (power), 3 AVCC (power), 4 XI (io), 5 XO (io), 6 AVCC (power), 7 AVCC (power), 8 PDOUT (out), 9 VCOIN (in), 10 TESTM2 (in), 11 ~{RST} (in), 12 ~{ISO} (in), 13 AGND (power), 14 AGND (power), 15 AGND (power), 16 AGND (power), 17 AGND (power), 18 DGND (power), 19 LPS (in), 20 DGND (power), 21 LREQ (in), 22 TESTM1 (in), 23 DVCC (power), 24 SYSCLK (out), 25 CTL0 (io), 26 CTL1 (io), 27 D0 (io), 28 D1 (io), 29 C/LKON (io), 30 DGND (power), 31 ENCLK100 (in), 32 CLK100 (in), 33 DVCC (power), 34 PC0 (in), 35 PC1 (in), 36 TPBIAS (out), 37 PC2 (in), 38 R1, 39 R0, 40 AGND (power), 41 AGND (power), 42 AGND (power), 43 AGND (power), 44 AGND (power), 45 ~{TPB3} (io), 46 TPB3 (io), 47 ~{TPA3} (io), 48 TPA3 (io), 49 ~{TPB2} (io), 50 TPB2 (io), 51 ~{TPA2} (io), 52 TPA2 (io), 53 ~{TPB1} (io), 54 TPB1 (io), 55 ~{TPA1} (io), 56 TPA1 (io)

## TSB11C01DLR
designator U?
IEEE 1394-1995 Triple-Cable Transceiver/Arbiter; Note: Pins 10 and 22 should be tied high.  Pin 36 (TPBIAS) Refer to note in Texas Instruments Data Sheet; ComponentAvailability: Obsolete; Published: 15-Apr-2002; LatestRevisionDate: 04-Mar-2005; LatestRevisionNote: Stylized 3D Model Added.; DatasheetVersion: Mar-1996; PackageVersion: Dec-2001; PackageReference: DL056; Publisher: Altium Limited; PackageDescription: SSOP; 56 Leads; Body Width 7.5 mm; Pitch 0.635 mm; Code_JEDEC: MO-118-AB; Code_IPC: SSO56; ComponentLink1Description: Manufacturer Link; ComponentLink1URL: http://www.ti.com/; ComponentLink2Description: Datasheet; ComponentLink2URL: http://www-s.ti.com/sc/ds/tsb11c01.pdf
footprint DL056 (SSOP; 56 Leads; Body Width 7.5 mm; Pitch 0.635 mm)
3D model DL056 (SSOP; 56 Leads; Body Width 7.5 mm; Pitch 0.635 mm)
pins: 1 CPS (in), 2 AVCC (power), 3 AVCC (power), 4 XI (io), 5 XO (io), 6 AVCC (power), 7 AVCC (power), 8 PDOUT (out), 9 VCOIN (in), 10 TESTM2 (in), 11 ~{RST} (in), 12 ~{ISO} (in), 13 AGND (power), 14 AGND (power), 15 AGND (power), 16 AGND (power), 17 AGND (power), 18 DGND (power), 19 LPS (in), 20 DGND (power), 21 LREQ (in), 22 TESTM1 (in), 23 DVCC (power), 24 SYSCLK (out), 25 CTL0 (io), 26 CTL1 (io), 27 D0 (io), 28 D1 (io), 29 C/LKON (io), 30 DGND (power), 31 ENCLK100 (in), 32 CLK100 (in), 33 DVCC (power), 34 PC0 (in), 35 PC1 (in), 36 TPBIAS (out), 37 PC2 (in), 38 R1, 39 R0, 40 AGND (power), 41 AGND (power), 42 AGND (power), 43 AGND (power), 44 AGND (power), 45 ~{TPB3} (io), 46 TPB3 (io), 47 ~{TPA3} (io), 48 TPA3 (io), 49 ~{TPB2} (io), 50 TPB2 (io), 51 ~{TPA2} (io), 52 TPA2 (io), 53 ~{TPB1} (io), 54 TPB1 (io), 55 ~{TPA1} (io), 56 TPA1 (io)

## TSB11LV01PT
designator U?
3-V 1-Port IEEE 1394-1995 Cable Transceiver/Arbiter; Note: Pins 47 and 48 should be tied high; ComponentAvailability: Obsolete; Published: 15-Apr-2002; LatestRevisionDate: 13-Apr-2006; LatestRevisionNote: IPC-7351 Footprint Added.; DatasheetVersion: May-1997; PackageVersion: May-1997; PackageReference: PT48; Publisher: Altium Limited; PackageDescription: 48-Pin Thin Quad Flat Pack 0.5 mm Pitch; ComponentLink1Description: Manufacturer Link; ComponentLink1URL: http://www.ti.com/; ComponentLink2Description: Datasheet; ComponentLink2URL: http://www-s.ti.com/sc/ds/tsb11lv01.pdf
footprint PT48_N (Thin QFP, 48-Leads, Body 7x7mm, Pitch 0.5mm, IPC Medium Density)
footprint PT48_L (Thin QFP, 48-Leads, Body 7x7mm, Pitch 0.5mm, IPC High Density)
footprint PT48_M (Thin QFP, 48-Leads, Body 7x7mm, Pitch 0.5mm, IPC Low Density)
3D model TSB11LV01-PT48 (48-Pin Thin Quad Flat Pack 0.5 mm Pitch)
pins: 1 CNA (out), 2 LPS (in), 3 C/LKON (io), 4 PC0 (in), 5 PC1 (in), 6 PC2 (in), 7 LREQ (in), 8 CTL0 (io), 9 CTL1 (io), 10 D0 (io), 11 D1 (io), 12 SYSCLK (out), 13 DGND (power), 14 DVCC (power), 15 DGND (power), 16 BIAS-5V (power), 17 DGND (power), 18 DVCC (power), 19 DGND (power), 20 DGND (power), 21 AGND (power), 22 AVCC (power), 23 AGND (power), 24 AGND (power), 25 TPBIAS (out), 26 AGND (power), 27 AGND (power), 28 AVCC (power), 29 AVCC (power), 30 CPS (in), 31 R1, 32 R0, 33 TPB- (io), 34 TPB+ (io), 35 TPA- (io), 36 TPA+ (io), 37 XO, 38 XI, 39 PLLGND (power), 40 PLLGND (power), 41 PLLVCC (power), 42 PLLFLT (in), 43 PWRDN (in), 44 AVCC (power), 45 DVCC (power), 46 ~{RST} (in), 47 TESTM2 (in), 48 TESTM1 (in)

## TSB14C01AIPM
designator U?
5-V IEEE 1394-1995 Backplane Transceiver/Arbiter; Note: Pins 31-33,44-48,53,56 are NC and not drawn (and should be left floating). Pins 1, 2 and 63 are used for test/debug - not for normal operation.  Tie pin 35 high for normal operation.  Tie pin 19 low when not used.; ComponentAvailability: Obsolete; Published: 15-Apr-2002; LatestRevisionDate: 13-Apr-2006; LatestRevisionNote: IPC-7351 Footprint Added.; DatasheetVersion: Nov-1999; PackageVersion: Dec-1996; PackageReference: PM064; Publisher: Altium Limited; PackageDescription: 64-Pin Thin Quad Flat Pack 0.5 mm Pitch; ComponentLink1Description: Manufacturer Link; ComponentLink1URL: http://www.ti.com/; ComponentLink2Description: Datasheet; ComponentLink2URL: http://www-s.ti.com/sc/ds/tsb14c01a.pdf
footprint PM064_N (Thin QFP, 64-Leads, Body 10x10mm, Pitch 0.5mm, IPC Medium Density)
footprint PM064_L (Thin QFP, 64-Leads, Body 10x10mm, Pitch 0.5mm, IPC High Density)
footprint PM064_M (Thin QFP, 64-Leads, Body 10x10mm, Pitch 0.5mm, IPC Low Density)
3D model TSB14C01A-PM064 (64-Pin Thin Quad Flat Pack 0.5 mm Pitch)
pins: 1 ARB_CLK (out), 2 PHYENA (out), 3 VCC (power), 4 ENA_PRI (in), 5 VCC (power), 6 N_POR (in), 7 GND (power), 8 LREQ (in), 9 VCC (power), 10 SCLK (out), 11 TSCLK (out), 12 GND (power), 13 CTL0 (io), 14 CTL1 (io), 15 D0 (io), 16 D1 (io), 17 VCC (power), 18 EN_EXID (in), 19 EN_EXPRI (in), 20 EX_ID5 (in), 21 EX_ID4 (in), 22 EX_ID3 (in), 23 EX_ID2 (in), 24 EX_ID1 (in), 25 EX_ID0 (in), 26 GND (power), 27 EX_PRI3 (in), 28 EX_PRI2 (in), 29 EX_PRI1 (in), 30 EX_PRI0 (in), 34 VCC (power), 35 PTEST_INDRV (in), 36 GND (power), 37 N_OEB_D (out), 38 GND (power), 39 TSTRB (out), 40 TDATA (out), 41 VCC (power), 42 RSTRB (in), 43 RDATA (in), 49 GND (power), 50 OSC_SEL (in), 51 GND (power), 52 XI_100 (in), 54 GND (power), 55 XI_50 (in), 57 VCC (power), 58 TI1 (in), 59 VCC (power), 60 GND (power), 61 VCC (power), 62 VCC (power), 63 RPREFIX (out), 64 GND (power)

## TSB14C01AMHV
designator U?
5-V IEEE 1394-1995 Backplane Transceiver/Arbiter; Note: Pins 9,10,27,28,43-45,56-60,65,68 are NC and not drawn (and should be left floating).  Pins 7, 11 and 12 are used for test and debug and are not used in normal operation.  Pin 62 must not be left floating.; Published: 15-Apr-2002; LatestRevisionDate: 13-Apr-2006; LatestRevisionNote: IPC-7351 Footprint Added.; DatasheetVersion: Nov-1999; PackageVersion: Oct-1996; PackageReference: HV068; Publisher: Altium Limited; PackageDescription: 68-Pin Ceramic Quad Flat Pack 0.635 mm Pitch; ComponentLink1Description: Manufacturer Link; ComponentLink1URL: http://www.ti.com/; ComponentLink2Description: Datasheet; ComponentLink2URL: http://www-s.ti.com/sc/ds/tsb14c01a.pdf
footprint HV068_N (CQFP, 68-Leads, Body 12.5x12.5mm; Pitch 0.635mm, Gullwing Leadform, IPC Medium Density)
footprint HV068_L (CQFP, 68-Leads, Body 12.5x12.5mm; Pitch 0.635mm, Gullwing Leadform, IPC High Density)
footprint HV068_M (CQFP, 68-Leads, Body 12.5x12.5mm; Pitch 0.635mm, Gullwing Leadform, IPC Low Density)
3D model TSB14C01A-HV068 (68-Pin Ceramic Quad Flat Pack 0.635 mm Pitch)
pins: 1 VCC (power), 2 TI1 (in), 3 VCC (power), 4 GND (power), 5 VCC (power), 6 VCC (power), 7 RPREFIX (out), 8 GND (power), 11 ARB_CLK (out), 12 PHYENA (out), 13 VCC (power), 14 ENA_PRI (in), 15 VCC (power), 16 N_POR (in), 17 GND (power), 18 LREQ (in), 19 VCC (power), 20 SCLK (out), 21 TSCLK (out), 22 GND (power), 23 CTL0 (io), 24 CTL1 (io), 25 D0 (io), 26 D1 (io), 29 VCC (power), 30 EN_EXID (in), 31 EN_EXPRI (in), 32 EX_ID5 (in), 33 EX_ID4 (in), 34 EX_ID3 (in), 35 EX_ID2 (in), 36 EX_ID1 (in), 37 EX_ID0 (in), 38 GND (power), 39 EX_PRI3 (in), 40 EX_PRI2 (in), 41 EX_PRI1 (in), 42 EX_PRI0 (in), 46 VCC (power), 47 PTEST_INDRV (in), 48 GND (power), 49 N_OEB_D (out), 50 GND (power), 51 TSTRB (out), 52 TDATA (out), 53 VCC (power), 54 RSTRB (in), 55 RDATA (in), 61 GND (power), 62 OSC_SEL (in), 63 GND (power), 64 XI_100 (in), 66 GND (power), 67 XI_50 (in)

## TSB14C01APM
designator U?
5-V IEEE 1394-1995 Backplane Transceiver/Arbiter; Note: Pins 31-33,44-48,53,56 are NC and not drawn (and should be left floating). Pins 1, 2 and 63 are used for test/debug - not for normal operation.  Tie pin 35 high for normal operation.  Tie pin 19 low when not used.; Published: 15-Apr-2002; LatestRevisionDate: 13-Apr-2006; LatestRevisionNote: IPC-7351 Footprint Added.; DatasheetVersion: Nov-1999; PackageVersion: Dec-1996; PackageReference: PM064; Publisher: Altium Limited; PackageDescription: 64-Pin Thin Quad Flat Pack 0.5 mm Pitch; ComponentLink1Description: Manufacturer Link; ComponentLink1URL: http://www.ti.com/; ComponentLink2Description: Datasheet; ComponentLink2URL: http://www-s.ti.com/sc/ds/tsb14c01a.pdf
footprint PM064_N (Thin QFP, 64-Leads, Body 10x10mm, Pitch 0.5mm, IPC Medium Density)
footprint PM064_L (Thin QFP, 64-Leads, Body 10x10mm, Pitch 0.5mm, IPC High Density)
footprint PM064_M (Thin QFP, 64-Leads, Body 10x10mm, Pitch 0.5mm, IPC Low Density)
3D model TSB14C01A-PM064 (64-Pin Thin Quad Flat Pack 0.5 mm Pitch)
pins: 1 ARB_CLK (out), 2 PHYENA (out), 3 VCC (power), 4 ENA_PRI (in), 5 VCC (power), 6 N_POR (in), 7 GND (power), 8 LREQ (in), 9 VCC (power), 10 SCLK (out), 11 TSCLK (out), 12 GND (power), 13 CTL0 (io), 14 CTL1 (io), 15 D0 (io), 16 D1 (io), 17 VCC (power), 18 EN_EXID (in), 19 EN_EXPRI (in), 20 EX_ID5 (in), 21 EX_ID4 (in), 22 EX_ID3 (in), 23 EX_ID2 (in), 24 EX_ID1 (in), 25 EX_ID0 (in), 26 GND (power), 27 EX_PRI3 (in), 28 EX_PRI2 (in), 29 EX_PRI1 (in), 30 EX_PRI0 (in), 34 VCC (power), 35 PTEST_INDRV (in), 36 GND (power), 37 N_OEB_D (out), 38 GND (power), 39 TSTRB (out), 40 TDATA (out), 41 VCC (power), 42 RSTRB (in), 43 RDATA (in), 49 GND (power), 50 OSC_SEL (in), 51 GND (power), 52 XI_100 (in), 54 GND (power), 55 XI_50 (in), 57 VCC (power), 58 TI1 (in), 59 VCC (power), 60 GND (power), 61 VCC (power), 62 VCC (power), 63 RPREFIX (out), 64 GND (power)

## TSB14C01IPM
designator U?
5-V IEEE 1394-1995 Backplane Transceiver/Arbiter; Note: Pins 31-33,44-48,53,56 are NC and not drawn. Pins 1, 2 and 63 are used for test and debug and are not used in normal operation.; ComponentAvailability: Obsolete; Published: 15-Apr-2002; LatestRevisionDate: 13-Apr-2006; LatestRevisionNote: IPC-7351 Footprint Added.; DatasheetVersion: May-1997; PackageVersion: Dec-1996; PackageReference: PM064; Publisher: Altium Limited; PackageDescription: 64-Pin Thin Quad Flat Pack 0.5 mm Pitch; ComponentLink1Description: Manufacturer Link; ComponentLink1URL: http://www.ti.com/; ComponentLink2Description: Datasheet; ComponentLink2URL: http://www-s.ti.com/sc/ds/tsb14c01.pdf
footprint PM064_N (Thin QFP, 64-Leads, Body 10x10mm, Pitch 0.5mm, IPC Medium Density)
footprint PM064_L (Thin QFP, 64-Leads, Body 10x10mm, Pitch 0.5mm, IPC High Density)
footprint PM064_M (Thin QFP, 64-Leads, Body 10x10mm, Pitch 0.5mm, IPC Low Density)
3D model TSB14C01-PM064 (64-Pin Thin Quad Flat Pack 0.5 mm Pitch)
pins: 1 ARB_CLK (out), 2 PHYENA (out), 3 VCC (power), 4 ENA_PRI (in), 5 VCC (power), 6 N_POR (in), 7 GND (power), 8 LREQ (in), 9 VCC (power), 10 SCLK (out), 11 TSCLK (out), 12 GND (power), 13 CTL0 (io), 14 CTL1 (io), 15 D0 (io), 16 D1 (io), 17 VCC (power), 18 EN_EXID (in), 19 EN_EXPRI (in), 20 EX_ID5 (in), 21 EX_ID4 (in), 22 EX_ID3 (in), 23 EX_ID2 (in), 24 EX_ID1 (in), 25 EX_ID0 (in), 26 GND (power), 27 EX_PRI3 (in), 28 EX_PRI2 (in), 29 EX_PRI1 (in), 30 EX_PRI0 (in), 34 VCC (power), 35 PTEST_INDRV (in), 36 GND (power), 37 N_OEB_D (out), 38 GND (power), 39 TSTRB (out), 40 TDATA (out), 41 VCC (power), 42 RSTRB (in), 43 RDATA (in), 49 GND (power), 50 OSC_SEL (in), 51 GND (power), 52 XI_100 (in), 54 GND (power), 55 XI_50 (in), 57 VCC (power), 58 TI1 (in), 59 VCC (power), 60 GND (power), 61 VCC (power), 62 VCC (power), 63 RPREFIX (out), 64 GND (power)

## TSB14C01MHV
designator U?
5-V IEEE 1394-1995 Backplane Transceiver/Arbiter; ComponentAvailability: Obsolete; Published: 15-Apr-2002; LatestRevisionDate: 13-Apr-2006; LatestRevisionNote: IPC-7351 Footprint Added.; DatasheetVersion: May-1997; PackageVersion: Oct-1996; PackageReference: HV068; Publisher: Altium Limited; PackageDescription: 68-Pin Ceramic Quad Flat Pack 0.635 mm Pitch; ComponentLink1Description: Manufacturer Link; ComponentLink1URL: http://www.ti.com/; ComponentLink2Description: Datasheet; ComponentLink2URL: http://www-s.ti.com/sc/ds/tsb14c01.pdf
footprint HV068_N (CQFP, 68-Leads, Body 12.5x12.5mm; Pitch 0.635mm, Gullwing Leadform, IPC Medium Density)
footprint HV068_L (CQFP, 68-Leads, Body 12.5x12.5mm; Pitch 0.635mm, Gullwing Leadform, IPC High Density)
footprint HV068_M (CQFP, 68-Leads, Body 12.5x12.5mm; Pitch 0.635mm, Gullwing Leadform, IPC Low Density)
3D model TSB14C01-HV068 (68-Pin Ceramic Quad Flat Pack 0.635 mm Pitch)
pins: 1 VCC (power), 2 TI1 (in), 3 VCC (power), 4 GND (power), 5 VCC (power), 6 VCC (power), 7 RPREFIX (out), 8 GND (power), 11 ARB_CLK (out), 12 PHYENA (out), 13 VCC (power), 14 ENA_PRI (in), 15 VCC (power), 16 N_POR (in), 17 GND (power), 18 LREQ (in), 19 VCC (power), 20 SCLK (out), 21 TSCLK (out), 22 GND (power), 23 CTL0 (io), 24 CTL1 (io), 25 D0 (io), 26 D1 (io), 29 VCC (power), 30 EN_EXID (in), 31 EN_EXPRI (in), 32 EX_ID5 (in), 33 EX_ID4 (in), 34 EX_ID3 (in), 35 EX_ID2 (in), 36 EX_ID1 (in), 37 EX_ID0 (in), 38 GND (power), 39 EX_PRI3 (in), 40 EX_PRI2 (in), 41 EX_PRI1 (in), 42 EX_PRI0 (in), 46 VCC (power), 47 PTEST_INDRV (in), 48 GND (power), 49 N_OEB_D (out), 50 GND (power), 51 TSTRB (out), 52 TDATA (out), 53 VCC (power), 54 RSTRB (in), 55 RDATA (in), 61 GND (power), 62 OSC_SEL (in), 63 GND (power), 64 XI_100 (in), 66 GND (power), 67 XI_50 (in)

## TSB14C01MHVB
designator U?
5-V IEEE 1394-1995 Backplane Transceiver/Arbiter; Note: Pins 9,10,27,28,43-45,56-60,65,68 are NC and not drawn.; ComponentAvailability: Obsolete; Published: 15-Apr-2002; LatestRevisionDate: 13-Apr-2006; LatestRevisionNote: IPC-7351 Footprint Added.; DatasheetVersion: May-1997; PackageVersion: Oct-1996; PackageReference: HV068; Publisher: Altium Limited; PackageDescription: 68-Pin Ceramic Quad Flat Pack 0.635 mm Pitch; ComponentLink1Description: Manufacturer Link; ComponentLink1URL: http://www.ti.com/; ComponentLink2Description: Datasheet; ComponentLink2URL: http://www-s.ti.com/sc/ds/tsb14c01.pdf
footprint HV068_N (CQFP, 68-Leads, Body 12.5x12.5mm; Pitch 0.635mm, Gullwing Leadform, IPC Medium Density)
footprint HV068_L (CQFP, 68-Leads, Body 12.5x12.5mm; Pitch 0.635mm, Gullwing Leadform, IPC High Density)
footprint HV068_M (CQFP, 68-Leads, Body 12.5x12.5mm; Pitch 0.635mm, Gullwing Leadform, IPC Low Density)
3D model TSB14C01-HV068 (68-Pin Ceramic Quad Flat Pack 0.635 mm Pitch)
pins: 1 VCC (power), 2 TI1 (in), 3 VCC (power), 4 GND (power), 5 VCC (power), 6 VCC (power), 7 RPREFIX (out), 8 GND (power), 11 ARB_CLK (out), 12 PHYENA (out), 13 VCC (power), 14 ENA_PRI (in), 15 VCC (power), 16 N_POR (in), 17 GND (power), 18 LREQ (in), 19 VCC (power), 20 SCLK (out), 21 TSCLK (out), 22 GND (power), 23 CTL0 (io), 24 CTL1 (io), 25 D0 (io), 26 D1 (io), 29 VCC (power), 30 EN_EXID (in), 31 EN_EXPRI (in), 32 EX_ID5 (in), 33 EX_ID4 (in), 34 EX_ID3 (in), 35 EX_ID2 (in), 36 EX_ID1 (in), 37 EX_ID0 (in), 38 GND (power), 39 EX_PRI3 (in), 40 EX_PRI2 (in), 41 EX_PRI1 (in), 42 EX_PRI0 (in), 46 VCC (power), 47 PTEST_INDRV (in), 48 GND (power), 49 N_OEB_D (out), 50 GND (power), 51 TSTRB (out), 52 TDATA (out), 53 VCC (power), 54 RSTRB (in), 55 RDATA (in), 61 GND (power), 62 OSC_SEL (in), 63 GND (power), 64 XI_100 (in), 66 GND (power), 67 XI_50 (in)

## TSB14C01PM
designator U?
5-V IEEE 1394-1995 Backplane Transceiver/Arbiter; Note: Pins 31-33,44-48,53,56 are NC and not drawn (and should be left floating). Pins 1, 2 and 63 are used for test and debug and are not used in normal operation.  Pin 58 should be tied to GND and Pin 35 should be tied high for normal operation.  Pin 19 should be tied low when not used.  Pin 50 must not be left floating; ComponentAvailability: Obsolete; Published: 15-Apr-2002; LatestRevisionDate: 13-Apr-2006; LatestRevisionNote: IPC-7351 Footprint Added.; DatasheetVersion: May-1997; PackageVersion: Dec-1996; PackageReference: PM064; Publisher: Altium Limited; PackageDescription: 64-Pin Thin Quad Flat Pack 0.5 mm Pitch; ComponentLink1Description: Manufacturer Link; ComponentLink1URL: http://www.ti.com/; ComponentLink2Description: Datasheet; ComponentLink2URL: http://www-s.ti.com/sc/ds/tsb14c01.pdf
footprint PM064_N (Thin QFP, 64-Leads, Body 10x10mm, Pitch 0.5mm, IPC Medium Density)
footprint PM064_L (Thin QFP, 64-Leads, Body 10x10mm, Pitch 0.5mm, IPC High Density)
footprint PM064_M (Thin QFP, 64-Leads, Body 10x10mm, Pitch 0.5mm, IPC Low Density)
3D model TSB14C01-PM064 (64-Pin Thin Quad Flat Pack 0.5 mm Pitch)
pins: 1 ARB_CLK (out), 2 PHYENA (out), 3 VCC (power), 4 ENA_PRI (in), 5 VCC (power), 6 N_POR (in), 7 GND (power), 8 LREQ (in), 9 VCC (power), 10 SCLK (out), 11 TSCLK (out), 12 GND (power), 13 CTL0 (io), 14 CTL1 (io), 15 D0 (io), 16 D1 (io), 17 VCC (power), 18 EN_EXID (in), 19 EN_EXPRI (in), 20 EX_ID5 (in), 21 EX_ID4 (in), 22 EX_ID3 (in), 23 EX_ID2 (in), 24 EX_ID1 (in), 25 EX_ID0 (in), 26 GND (power), 27 EX_PRI3 (in), 28 EX_PRI2 (in), 29 EX_PRI1 (in), 30 EX_PRI0 (in), 34 VCC (power), 35 PTEST_INDRV (in), 36 GND (power), 37 N_OEB_D (out), 38 GND (power), 39 TSTRB (out), 40 TDATA (out), 41 VCC (power), 42 RSTRB (in), 43 RDATA (in), 49 GND (power), 50 OSC_SEL (in), 51 GND (power), 52 XI_100 (in), 54 GND (power), 55 XI_50 (in), 57 VCC (power), 58 TI1 (in), 59 VCC (power), 60 GND (power), 61 VCC (power), 62 VCC (power), 63 RPREFIX (out), 64 GND (power)

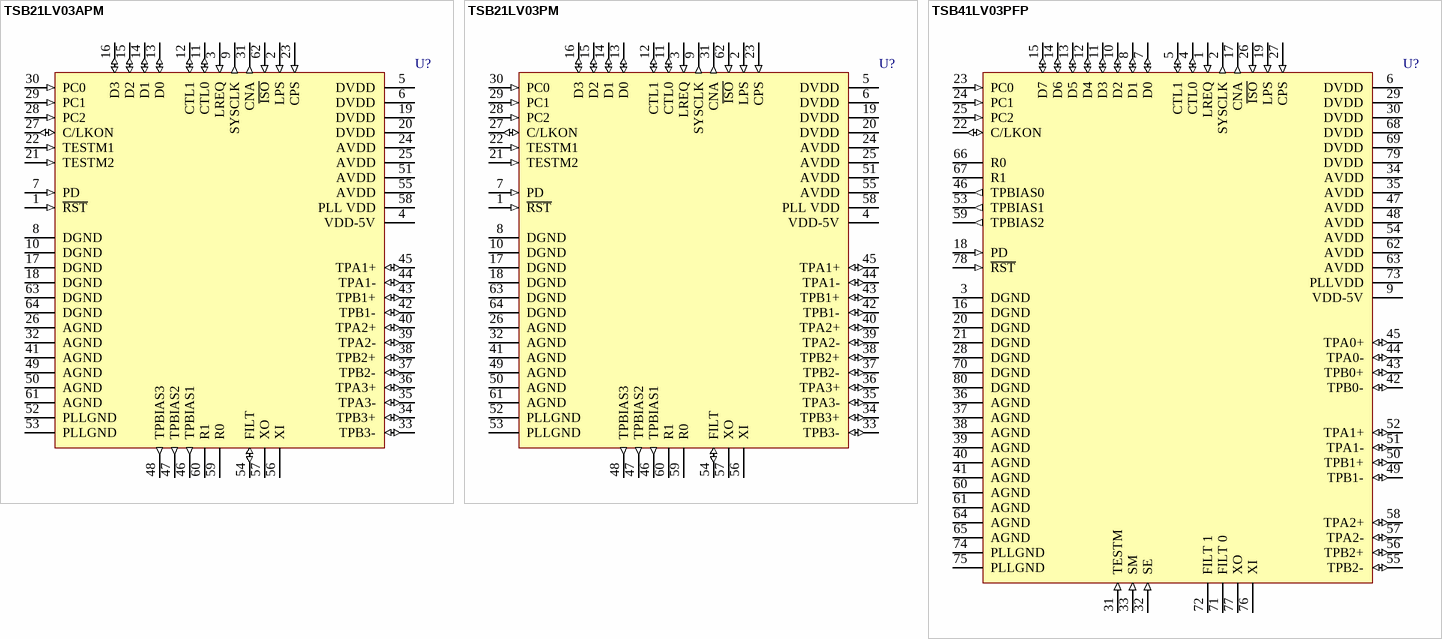
[diagram p39: symbols TSB21LV03APM to TSB41LV03PFP]

## TSB21LV03APM
designator U?
IEEE 1394-1995 Triple-Cable Transceiver/Arbiter; Note: Pins 21 and 22 should be tied high; ComponentAvailability: Obsolete; Published: 15-Apr-2002; LatestRevisionDate: 13-Apr-2006; LatestRevisionNote: IPC-7351 Footprint Added.; DatasheetVersion: Nov-1997; PackageVersion: Dec-1996; PackageReference: PM064; Publisher: Altium Limited; PackageDescription: 64-Pin Thin Quad Flat Pack 0.5 mm Pitch; ComponentLink1Description: Manufacturer Link; ComponentLink1URL: http://www.ti.com/; ComponentLink2Description: Datasheet; ComponentLink2URL: http://www-s.ti.com/sc/ds/tsb21lv03a.pdf
footprint PM064_N (Thin QFP, 64-Leads, Body 10x10mm, Pitch 0.5mm, IPC Medium Density)
footprint PM064_L (Thin QFP, 64-Leads, Body 10x10mm, Pitch 0.5mm, IPC High Density)
footprint PM064_M (Thin QFP, 64-Leads, Body 10x10mm, Pitch 0.5mm, IPC Low Density)
3D model TSB21LV03A-PM064 (64-Pin Thin Quad Flat Pack 0.5 mm Pitch)
pins: 1 ~{RST} (in), 2 LPS (in), 3 LREQ (in), 4 VDD-5V (power), 5 DVDD (power), 6 DVDD (power), 7 PD (in), 8 DGND (power), 9 SYSCLK (out), 10 DGND (power), 11 CTL0 (io), 12 CTL1 (io), 13 D0 (io), 14 D1 (io), 15 D2 (io), 16 D3 (io), 17 DGND (power), 18 DGND (power), 19 DVDD (power), 20 DVDD (power), 21 TESTM2 (in), 22 TESTM1 (in), 23 CPS (in), 24 AVDD (power), 25 AVDD (power), 26 AGND (power), 27 C/LKON (io), 28 PC2 (in), 29 PC1 (in), 30 PC0 (in), 31 CNA (out), 32 AGND (power), 33 TPB3- (io), 34 TPB3+ (io), 35 TPA3- (io), 36 TPA3+ (io), 37 TPB2- (io), 38 TPB2+ (io), 39 TPA2- (io), 40 TPA2+ (io), 41 AGND (power), 42 TPB1- (io), 43 TPB1+ (io), 44 TPA1- (io), 45 TPA1+ (io), 46 TPBIAS1 (out), 47 TPBIAS2 (out), 48 TPBIAS3 (out), 49 AGND (power), 50 AGND (power), 51 AVDD (power), 52 PLLGND (power), 53 PLLGND (power), 54 FILT (io), 55 AVDD (power), 56 XI, 57 XO, 58 PLL VDD (power), 59 R0, 60 R1, 61 AGND (power), 62 ~{ISO} (in), 63 DGND (power), 64 DGND (power)

## TSB21LV03PM
designator U?
IEEE 1394-1995 Triple-Cable Transceiver/Arbiter; Note: Pins 21 and 22 should be tied high; ComponentAvailability: Obsolete; Published: 15-Apr-2002; LatestRevisionDate: 13-Apr-2006; LatestRevisionNote: IPC-7351 Footprint Added.; DatasheetVersion: Dec-1996; PackageVersion: Dec-1996; PackageReference: PM064; Publisher: Altium Limited; PackageDescription: 64-Pin Thin Quad Flat Pack 0.5 mm Pitch; ComponentLink1Description: Manufacturer Link; ComponentLink1URL: http://www.ti.com/; ComponentLink2Description: Datasheet; ComponentLink2URL: http://www-s.ti.com/sc/ds/tsb21lv03.pdf
footprint PM064_N (Thin QFP, 64-Leads, Body 10x10mm, Pitch 0.5mm, IPC Medium Density)
footprint PM064_L (Thin QFP, 64-Leads, Body 10x10mm, Pitch 0.5mm, IPC High Density)
footprint PM064_M (Thin QFP, 64-Leads, Body 10x10mm, Pitch 0.5mm, IPC Low Density)
3D model TSB21LV03-PM064 (64-Pin Thin Quad Flat Pack 0.5 mm Pitch)
pins: 1 ~{RST} (in), 2 LPS (in), 3 LREQ (in), 4 VDD-5V (power), 5 DVDD (power), 6 DVDD (power), 7 PD (in), 8 DGND (power), 9 SYSCLK (out), 10 DGND (power), 11 CTL0 (io), 12 CTL1 (io), 13 D0 (io), 14 D1 (io), 15 D2 (io), 16 D3 (io), 17 DGND (power), 18 DGND (power), 19 DVDD (power), 20 DVDD (power), 21 TESTM2 (in), 22 TESTM1 (in), 23 CPS (in), 24 AVDD (power), 25 AVDD (power), 26 AGND (power), 27 C/LKON (io), 28 PC2 (in), 29 PC1 (in), 30 PC0 (in), 31 CNA (out), 32 AGND (power), 33 TPB3- (io), 34 TPB3+ (io), 35 TPA3- (io), 36 TPA3+ (io), 37 TPB2- (io), 38 TPB2+ (io), 39 TPA2- (io), 40 TPA2+ (io), 41 AGND (power), 42 TPB1- (io), 43 TPB1+ (io), 44 TPA1- (io), 45 TPA1+ (io), 46 TPBIAS1 (out), 47 TPBIAS2 (out), 48 TPBIAS3 (out), 49 AGND (power), 50 AGND (power), 51 AVDD (power), 52 PLLGND (power), 53 PLLGND (power), 54 FILT (io), 55 AVDD (power), 56 XI, 57 XO, 58 PLL VDD (power), 59 R0, 60 R1, 61 AGND (power), 62 ~{ISO} (in), 63 DGND (power), 64 DGND (power)

## TSB41LV03PFP
designator U?
IEEE 1394-1995 Three Port Cable Transceiver/Arbiter; Note: For normal operation tie pins 32 and 33 to GND and pin 31 to VCC.  Pin 26 tie high; ComponentAvailability: Obsolete; Published: 15-Apr-2002; LatestRevisionDate: 13-Apr-2006; LatestRevisionNote: IPC-7351 Footprint Added.; DatasheetVersion: Sep-1998; PackageVersion: Aug-2003; PackageReference: PFP80; Publisher: Altium Limited; PackageDescription: 80-Pin Plastic Quad Flat Pack PowerPAD; ComponentLink1Description: Manufacturer Link; ComponentLink1URL: http://www.ti.com/; ComponentLink2Description: Datasheet; ComponentLink2URL: http://www-s.ti.com/sc/ds/tsb41lv03.pdf
footprint PFP80_N (Thin QFP, 80-Leads, Body 12x12mm, Pitch 0.5mm, IPC Medium Density)
footprint PFP80_L (Thin QFP, 80-Leads, Body 12x12mm, Pitch 0.5mm, IPC High Density)
footprint PFP80_M (Thin QFP, 80-Leads, Body 12x12mm, Pitch 0.5mm, IPC Low Density)
3D model TSB41LV03-PFP80 (80-Pin Plastic Quad Flat Pack PowerPAD)
pins: 1 LREQ (in), 2 SYSCLK (out), 3 DGND (power), 4 CTL0 (io), 5 CTL1 (io), 6 DVDD (power), 7 D0 (io), 8 D1 (io), 9 VDD-5V (power), 10 D2 (io), 11 D3 (io), 12 D4 (io), 13 D5 (io), 14 D6 (io), 15 D7 (io), 16 DGND (power), 17 CNA (out), 18 PD (in), 19 LPS (in), 20 DGND (power), 21 DGND (power), 22 C/LKON (io), 23 PC0 (in), 24 PC1 (in), 25 PC2 (in), 26 ~{ISO} (in), 27 CPS (in), 28 DGND (power), 29 DVDD (power), 30 DVDD (power), 31 TESTM (in), 32 SE (in), 33 SM (in), 34 AVDD (power), 35 AVDD (power), 36 AGND (power), 37 AGND (power), 38 AGND (power), 39 AGND (power), 40 AGND (power), 41 AGND (power), 42 TPB0- (io), 43 TPB0+ (io), 44 TPA0- (io), 45 TPA0+ (io), 46 TPBIAS0 (out), 47 AVDD (power), 48 AVDD (power), 49 TPB1- (io), 50 TPB1+ (io), 51 TPA1- (io), 52 TPA1+ (io), 53 TPBIAS1 (out), 54 AVDD (power), 55 TPB2- (io), 56 TPB2+ (io), 57 TPA2- (io), 58 TPA2+ (io), 59 TPBIAS2 (out), 60 AGND (power), 61 AGND (power), 62 AVDD (power), 63 AVDD (power), 64 AGND (power), 65 AGND (power), 66 R0, 67 R1, 68 DVDD (power), 69 DVDD (power), 70 DGND (power), 71 FILT 0, 72 FILT 1, 73 PLLVDD (power), 74 PLLGND (power), 75 PLLGND (power), 76 XI, 77 XO, 78 ~{RST} (in), 79 DVDD (power), 80 DGND (power)